# EAGLE library part XMOS-PCIE-G4 (library jt-con-pcie)
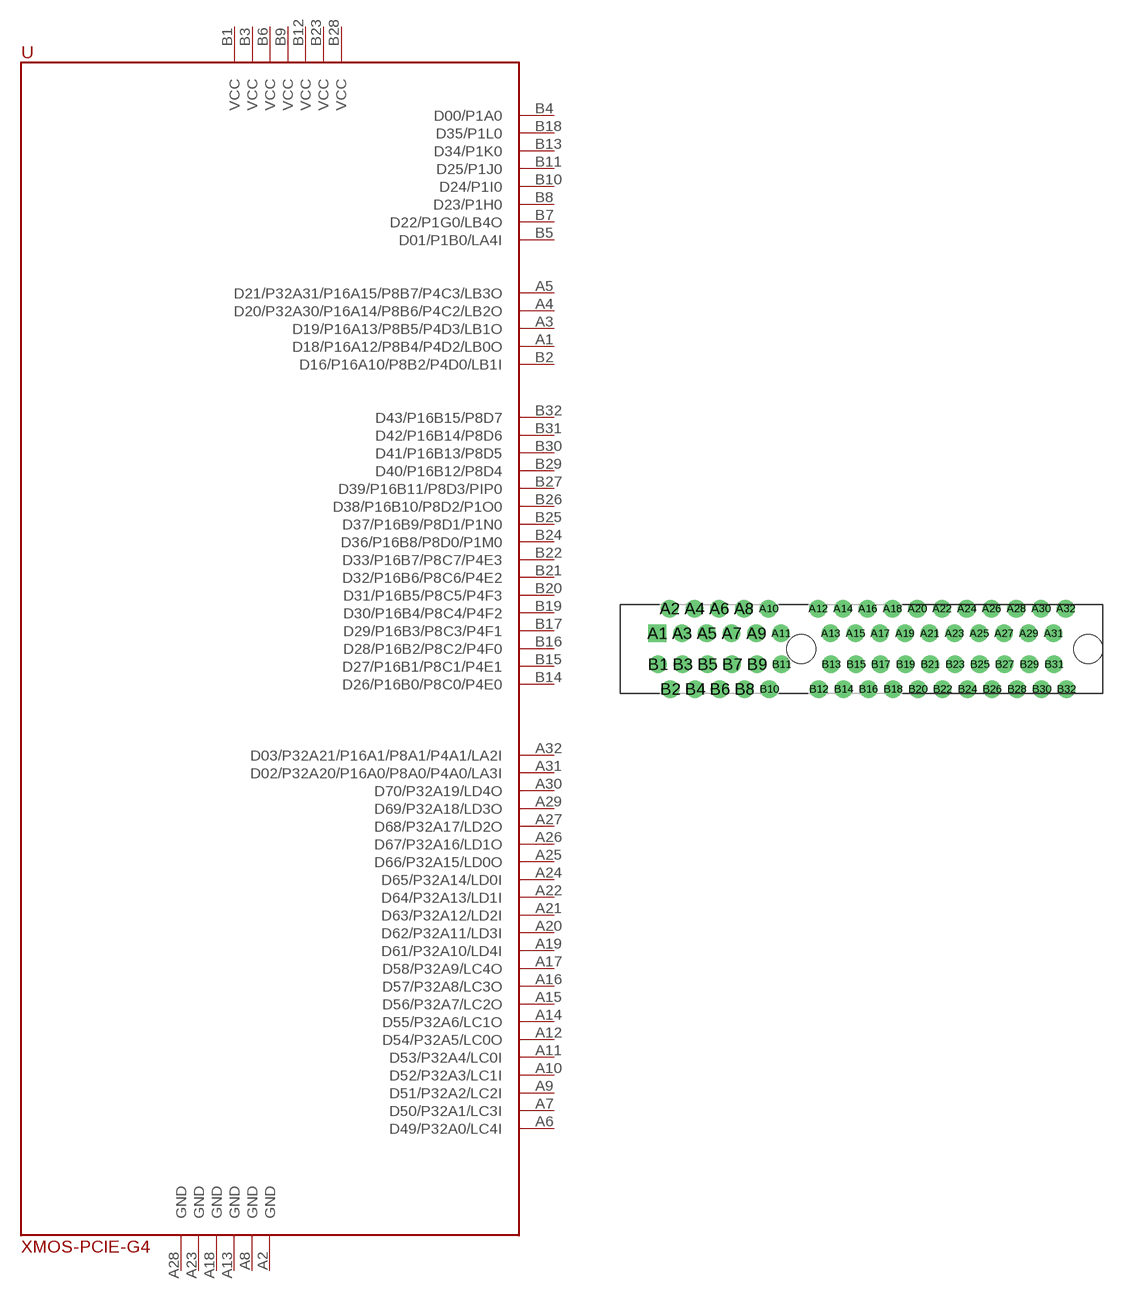
[diagram p4: symbol with the pads of PCIE-64-SKT; footprint PCIE-64-SKT]

Designator prefix -

## XMOS-PCIE-G4  [PCIE-64-SKT]
A1  D18/P16A12/P8B4/P4D2/LB0O
A2  GND
A3  D19/P16A13/P8B5/P4D3/LB1O
A4  D20/P32A30/P16A14/P8B6/P4C2/LB2O
A5  D21/P32A31/P16A15/P8B7/P4C3/LB3O
A6  D49/P32A0/LC4I
A7  D50/P32A1/LC3I
A8  GND
A9  D51/P32A2/LC2I
A10  D52/P32A3/LC1I
A11  D53/P32A4/LC0I
A12  D54/P32A5/LC0O
A13  GND
A14  D55/P32A6/LC1O
A15  D56/P32A7/LC2O
A16  D57/P32A8/LC3O
A17  D58/P32A9/LC4O
A18  GND
A19  D61/P32A10/LD4I
A20  D62/P32A11/LD3I
A21  D63/P32A12/LD2I
A22  D64/P32A13/LD1I
A23  GND
A24  D65/P32A14/LD0I
A25  D66/P32A15/LD0O
A26  D67/P32A16/LD1O
A27  D68/P32A17/LD2O
A28  GND
A29  D69/P32A18/LD3O
A30  D70/P32A19/LD4O
A31  D02/P32A20/P16A0/P8A0/P4A0/LA3I
A32  D03/P32A21/P16A1/P8A1/P4A1/LA2I
B1  VCC
B2  D16/P16A10/P8B2/P4D0/LB1I
B3  VCC
B4  D00/P1A0
B5  D01/P1B0/LA4I
B6  VCC
B7  D22/P1G0/LB4O
B8  D23/P1H0
B9  VCC
B10  D24/P1I0
B11  D25/P1J0
B12  VCC
B13  D34/P1K0
B14  D26/P16B0/P8C0/P4E0
B15  D27/P16B1/P8C1/P4E1
B16  D28/P16B2/P8C2/P4F0
B17  D29/P16B3/P8C3/P4F1
B18  D35/P1L0
B19  D30/P16B4/P8C4/P4F2
B20  D31/P16B5/P8C5/P4F3
B21  D32/P16B6/P8C6/P4E2
B22  D33/P16B7/P8C7/P4E3
B23  VCC
B24  D36/P16B8/P8D0/P1M0
B25  D37/P16B9/P8D1/P1N0
B26  D38/P16B10/P8D2/P1O0
B27  D39/P16B11/P8D3/PIP0
B28  VCC
B29  D40/P16B12/P8D4
B30  D41/P16B13/P8D5
B31  D42/P16B14/P8D6
B32  D43/P16B15/P8D7

## Footprint PCIE-64-SKT (pad centres in mm)
drill 0.7 pad 1.422 square: A1 -11.65,1.25
drill 0.7 pad 1.422: A2 -10.65,3.25; A3 -9.65,1.25; A4 -8.65,3.25; A5 -7.65,1.25; A6 -6.65,3.25; A7 -5.65,1.25; A8 -4.65,3.25; A9 -3.65,1.25; A10 -2.65,3.25; A11 -1.65,1.25; A12 1.35,3.25; A13 2.35,1.25; A14 3.35,3.25; A15 4.35,1.25; A16 5.35,3.25; A17 6.35,1.25; A18 7.35,3.25; A19 8.35,1.25; A20 9.35,3.25; A21 10.35,1.25; A22 11.35,3.25; A23 12.35,1.25; A24 13.35,3.25; A25 14.35,1.25; A26 15.35,3.25; A27 16.35,1.25; A28 17.35,3.25; A29 18.35,1.25; A30 19.35,3.25; A31 20.35,1.25; A32 21.35,3.25; B1 -11.6,-1.25; B2 -10.6,-3.25; B3 -9.6,-1.25; B4 -8.6,-3.25; B5 -7.6,-1.25; B6 -6.6,-3.25; B7 -5.6,-1.25; B8 -4.6,-3.25; B9 -3.6,-1.25; B10 -2.6,-3.25; B11 -1.6,-1.25; B12 1.4,-3.25; B13 2.4,-1.25; B14 3.4,-3.25; B15 4.4,-1.25; B16 5.4,-3.25; B17 6.4,-1.25; B18 7.4,-3.25; B19 8.4,-1.25; B20 9.4,-3.25; B21 10.4,-1.25; B22 11.4,-3.25; B23 12.4,-1.25; B24 13.4,-3.25; B25 14.4,-1.25; B26 15.4,-3.25; B27 16.4,-1.25; B28 17.4,-3.25; B29 18.4,-1.25; B30 19.4,-3.25; B31 20.4,-1.25; B32 21.4,-3.25
hole 2.35 at 0,0
hole 2.35 at 23.15,0